# Altium schematic symbol library 691364300008.SchLib: 1 symbol
Pins are listed as number, name and electrical type; pins without a type are passive.

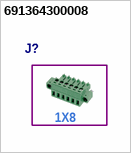
[diagram p0: symbol 691364300008]

## 691364300008
designator J?  (value not drawn)
691364300008
text: 1X8